# EAGLE library part DS1270 (library maxim-7)
DS1270 and similar NVRAM
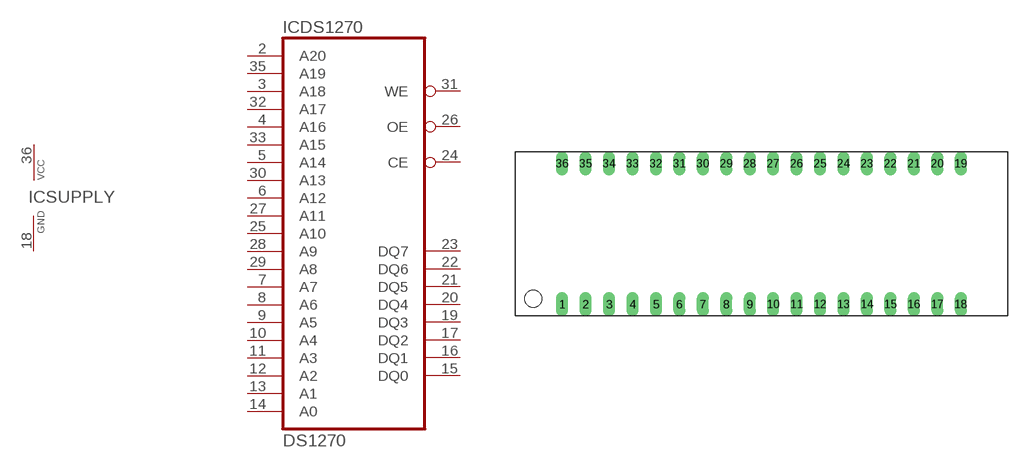
[diagram p390: symbol with the pads of MIL740EXT36; footprint MIL740EXT36]

Designator prefix IC; gates DS1270=DS12__ SUPPLY=VCC-GND

## DS1270  [MIL740EXT36]
2  DS1270:A20  in
3  DS1270:A18  in
4  DS1270:A16  in
5  DS1270:A14  in
6  DS1270:A12  in
7  DS1270:A7  in
8  DS1270:A6  in
9  DS1270:A5  in
10  DS1270:A4  in
11  DS1270:A3  in
12  DS1270:A2  in
13  DS1270:A1  in
14  DS1270:A0  in
15  DS1270:DQ0
16  DS1270:DQ1
17  DS1270:DQ2
18  SUPPLY:GND  pwr
19  DS1270:DQ3
20  DS1270:DQ4
21  DS1270:DQ5
22  DS1270:DQ6
23  DS1270:DQ7
24  DS1270:CE  in
25  DS1270:A10  in
26  DS1270:OE  in
27  DS1270:A11  in
28  DS1270:A9  in
29  DS1270:A8  in
30  DS1270:A13  in
31  DS1270:WE  in
32  DS1270:A17  in
33  DS1270:A15  in
35  DS1270:A19  in
36  SUPPLY:VCC  pwr

## Footprint MIL740EXT36 (pad centres in mm)
drill 0.813 long: 1 -20.32,-7.62; 2 -17.78,-7.62; 3 -15.24,-7.62; 4 -12.7,-7.62; 5 -10.16,-7.62; 6 -7.62,-7.62; 7 -5.08,-7.62; 8 -2.54,-7.62; 9 0,-7.62; 10 2.54,-7.62; 11 5.08,-7.62; 12 7.62,-7.62; 13 10.16,-7.62; 14 12.7,-7.62; 15 15.24,-7.62; 16 17.78,-7.62; 17 20.32,-7.62; 18 22.86,-7.62; 19 22.86,7.62; 20 20.32,7.62; 21 17.78,7.62; 22 15.24,7.62; 23 12.7,7.62; 24 10.16,7.62; 25 7.62,7.62; 26 5.08,7.62; 27 2.54,7.62; 28 0,7.62; 29 -2.54,7.62; 30 -5.08,7.62; 31 -7.62,7.62; 32 -10.16,7.62; 33 -12.7,7.62; 34 -15.24,7.62; 35 -17.78,7.62; 36 -20.32,7.62